# EAGLE library part HCF4093 (library motor)
Quad 2 Input NAND IC
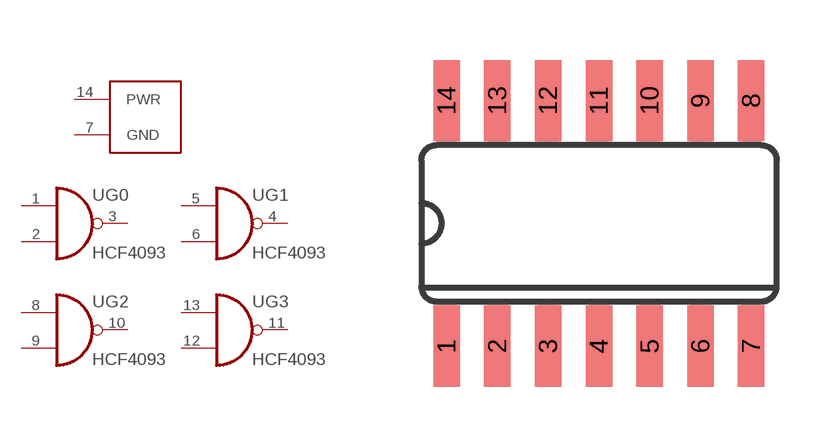
[diagram p3: symbol with the pads of SO14; footprint SO14]

Designator prefix -; gates G$1=AND_PWR G0=NAND2 G1=NAND2 G2=NAND2 G3=NAND2

## HCF4093  [SO14]
1  G0:I0  in
2  G0:I1  in
3  G0:O  out
4  G1:O  out
5  G1:I0  in
6  G1:I1  in
7  G$1:GND
8  G2:I0  in
9  G2:I1  in
10  G2:O  out
11  G3:O  out
12  G3:I1  in
13  G3:I0  in
14  G$1:PWR

## Footprint SO14 (pad centres in mm)
Small Outline package 150 mil
smd 0.66 x 2.032: 1 -3.81,-3.073; 2 -2.54,-3.073; 3 -1.27,-3.073; 4 0,-3.073; 5 1.27,-3.073; 6 2.54,-3.073; 7 3.81,-3.073; 8 3.81,3.073; 9 2.54,3.073; 10 1.27,3.073; 11 0,3.073; 12 -1.27,3.073; 13 -2.54,3.073; 14 -3.81,3.073